# Altium footprint library C0402C104K4RACTU.PcbLib: 2 footprints
Each footprint in its own frame and in the unit in brackets; x right, y up, seen from the top. Pads: shape width x height; smd on the part's side, far side on the other; paste and mask are expansions set on the pad; w line width, h text height; cw(c..) or ccw(c..) is an arc to the next point about the centre after c.
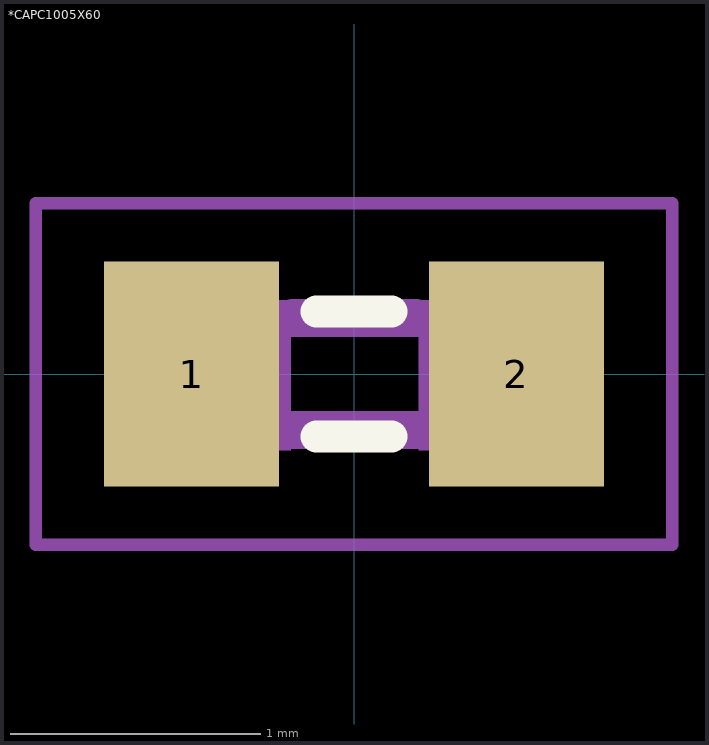
[diagram p0: the footprints below, top view; thin cyan lines are the x and y axes]

## *CAPC1005X60 [mm]
pads (2):
  rect 0.7x0.9 smd: 1(-0.65,0) 2(0.65,0)
Top Overlay:
  lines w0.127: -0.15,-0.25 0.15,-0.25 ; -0.15,0.25 0.15,0.25
Mechanical 4:
  region: 0.259,0.295 0.559,0.295 0.559,-0.305 0.259,-0.305
  region: -0.554,0.295 -0.254,0.295 -0.254,-0.305 -0.554,-0.305
  region: 0.259,0.295 0.559,0.295 0.559,-0.305 0.259,-0.305
  region: -0.554,0.295 -0.254,0.295 -0.254,-0.305 -0.554,-0.305
  lines w0.152: -0.245,-0.224 0.245,-0.224 -0.245,-0.224 ; -0.245,0.224 0.245,0.224 -0.245,0.224
Mechanical 16:
  lines w0.051: -1.273,-0.683 -1.273,0.683 1.273,0.683 1.273,-0.683 -1.273,-0.683

## PCBComponent_1 [mm]